# EAGLE library part PINHEAD_2X09 (library pinhead)
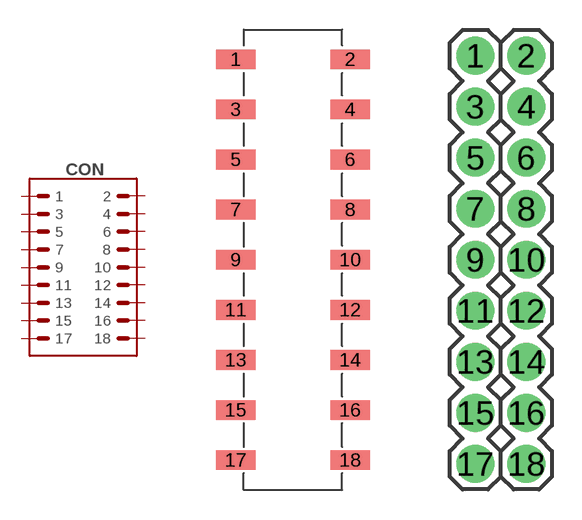
[diagram p28: symbol with the pads of PINHEAD_2X09_SMD_MALE; footprints PINHEAD_2X09_SMD_MALE, 2X09-PTH-2.54]

Designator prefix CON

## PINHEAD_2X09-SMD (DIGIKEY#: S5718-ND; MANF: Sullins Connector Solutions; MANF#: NPPC092KFMS-RC)  [PINHEAD_2X09_SMD_MALE]
1  1  pas
2  2  pas
3  3  pas
4  4  pas
5  5  pas
6  6  pas
7  7  pas
8  8  pas
9  9  pas
10  10  pas
11  11  pas
12  12  pas
13  13  pas
14  14  pas
15  15  pas
16  16  pas
17  17  pas
18  18  pas

## PINHEAD_2X09-PTH  [2X09-PTH-2.54]
Pads as for PINHEAD_2X09_SMD_MALE

## Footprint PINHEAD_2X09_SMD_MALE (pad centres in mm)
smd 2 x 1: 1 -2.9,10.16; 2 2.9,10.16; 3 -2.9,7.62; 4 2.9,7.62; 5 -2.9,5.08; 6 2.9,5.08; 7 -2.9,2.54; 8 2.9,2.54; 9 -2.9,0; 10 2.9,0; 11 -2.9,-2.54; 12 2.9,-2.54; 13 -2.9,-5.08; 14 2.9,-5.08; 15 -2.9,-7.62; 16 2.9,-7.62; 17 -2.9,-10.16; 18 2.9,-10.16

## Footprint 2X09-PTH-2.54 (pad centres in mm)
drill 1.016 pad 1.88: 1 -1.27,10.16; 2 1.27,10.16; 3 -1.27,7.62; 4 1.27,7.62; 5 -1.27,5.08; 6 1.27,5.08; 7 -1.27,2.54; 8 1.27,2.54; 9 -1.27,0; 10 1.27,0; 11 -1.27,-2.54; 12 1.27,-2.54; 13 -1.27,-5.08; 14 1.27,-5.08; 15 -1.27,-7.62; 16 1.27,-7.62; 17 -1.27,-10.16; 18 1.27,-10.16